# Altium schematic symbol library SPSTx5.SchLib: 1 symbol
Pins are listed as number, name and electrical type; pins without a type are passive.

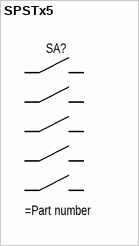
[diagram p0: symbol SPSTx5]

## SPSTx5
designator SA?
pins: 1, 2, 3, 4, 5, 6, 7, 8, 9, 10